# Altium integrated library Library.IntLib: 629 symbols (part 20 of 21)
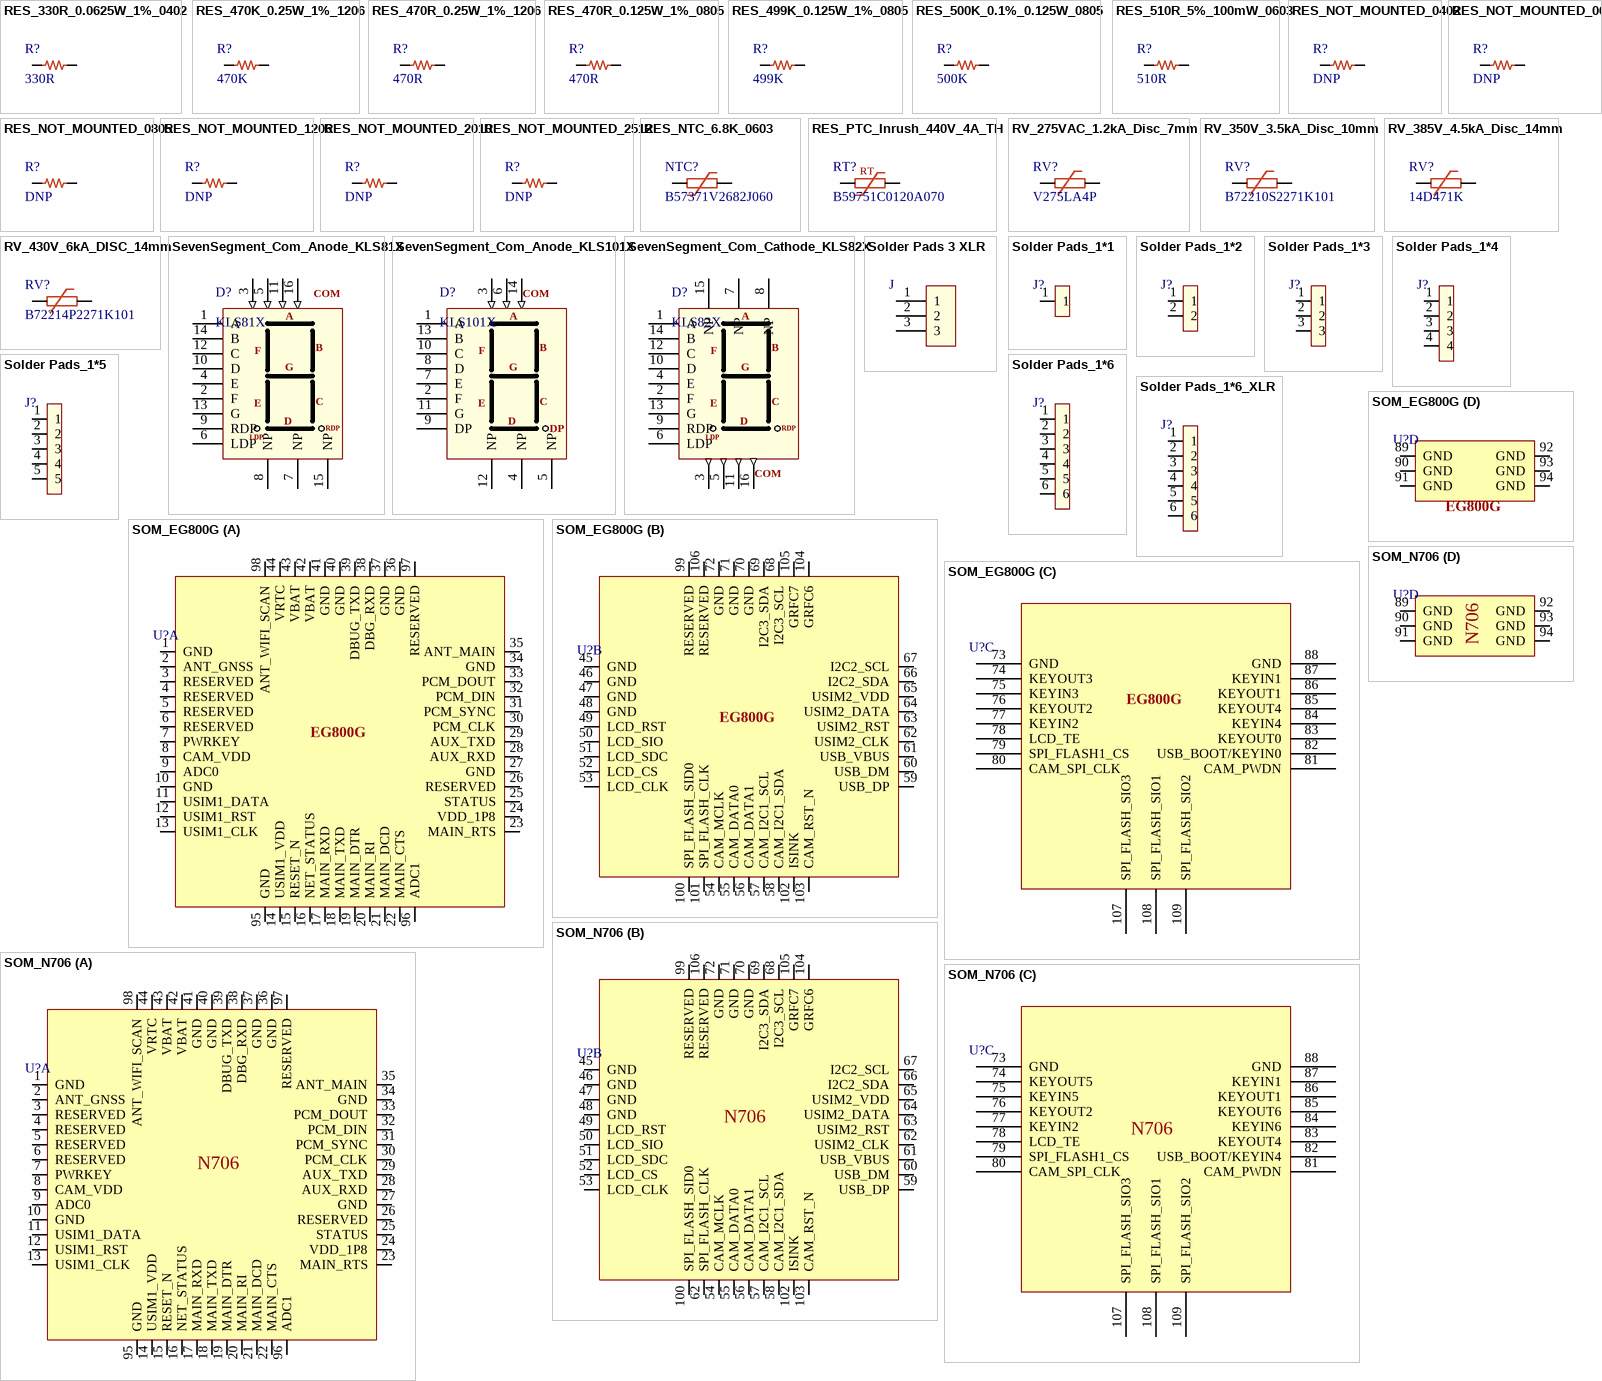
[diagram p37: symbols RES_330R_0.0625W_1%_0402 to SOM_N706]

## RES_470R_0.125W_1%_0805
designator R?, comment 470R
Fixed Resistor, Metal Glaze/thick Film, 0.125W, 470ohm, 150V, 1% +/-Tol, 100ppm/Cel, Surface Mount, 0805; Manufacturer: Yageo; Manufacturer Part Number: RC0805FR-07470RL; Additional Feature: LASER TRIMMABLE; Power: 125mW; Rated Temperature: 70°C; Temperature Coefficient (ppm/Cel): 100; Package Height: 0.5mm; Package Length: 2mm; Package Width: 1.25mm; Supplier: Farnell; Supplier Part Number: 9237445; RoHS: Yes; Category: Chip SMD Resistors; Stock: 108732; Pricing: 10=0.0137, 100=0.0102, 500=0.0089, 1000=0.0076, 2500=0.0074 (EUR); Mounting Technology: Surface Mount; Pins: 2; Package Shape: Rectangular; Case/Package: 0805; Terminal Finish: Nickel; Min Operating Temperature: -55°C; Max Operating Temperature: 155°C; Tolerance: 1%; Termination: Wraparound; JESD-609 Code: e3; Resistor Type: FIXED RESISTOR; Construction: Chip; Packaging: Tape and Reel; Value: 470R; Technology: METAL GLAZE/THICK FILM; Working Voltage: 150V; Reach SVHC Compliant: Yes; RoHS Compliant: Yes; ComponentLink1URL: https://datasheet.ciiva.com:443/pdfs/VipMasterIC/IC/YAGO/YAGO-S-A0008145938/YAGO-S-A0008145938-1.pdf?src-supplier=IHS+Markit; ComponentLink1Description: https://datasheet.ciiva.com:443/pdfs/VipMasterIC/IC/YAGO/YAGO-S-A0008145938/YAGO-S-A0008145938-1.pdf?src-supplier=IHS+Markit; ComponentLink2URL: https://datasheet.ciiva.com/2457/pyu-r-int-thick-7-2457057.pdf?src-supplier=Digikey; ComponentLink2Description: https://datasheet.ciiva.com/2457/pyu-r-int-thick-7-2457057.pdf?src-supplier=Digikey; ComponentLink3URL: https://datasheet.ciiva.com/2457/pyu-r-int-thick-7-2457058.pdf?src-supplier=Digikey; ComponentLink3Description: https://datasheet.ciiva.com/2457/pyu-r-int-thick-7-2457058.pdf?src-supplier=Digikey; ComponentLink4URL: https://datasheet.ciiva.com/2457/pyu-r-int-thick-7-2457056.pdf?src-supplier=Digikey; ComponentLink4Description: https://datasheet.ciiva.com/2457/pyu-r-int-thick-7-2457056.pdf?src-supplier=Digikey; ComponentLink5URL: https://datasheet.ciiva.com/7941/444164-7941797.pdf?src-supplier=Element14; ComponentLink5Description: https://datasheet.ciiva.com/7941/444164-7941797.pdf?src-supplier=Element14; ComponentLink6URL: https://datasheet.ciiva.com/46447/444164-46447580.pdf?src-supplier=Element14; ComponentLink6Description: https://datasheet.ciiva.com/46447/444164-46447580.pdf?src-supplier=Element14; ComponentLink7URL: https://datasheet.ciiva.com/7941/444164-7941798.pdf?src-supplier=Element14; ComponentLink7Description: https://datasheet.ciiva.com/7941/444164-7941798.pdf?src-supplier=Element14; ComponentLink8URL: https://datasheet.ciiva.com/16745/rc0805-16745229.pdf?src-supplier=Future+Electronics; ComponentLink8Description: https://datasheet.ciiva.com/16745/rc0805-16745229.pdf?src-supplier=Future+Electronics
footprint RES_0805
pins: 1, 2

## RES_499K_0.125W_1%_0805
designator R?, comment 499K
Fixed Resistor, Metal Glaze/thick Film, 0.125W, 499000ohm, 150V, 1% +/-Tol, 100ppm/Cel, Surface Mount, 0805; Manufacturer: Yageo; Manufacturer Part Number: RC0805FR-07499KL; Additional Feature: LASER TRIMMABLE; Power: 125mW; Rated Temperature: 70°C; Value: 499kR; Temperature Coefficient (ppm/Cel): 100; Package Height: 0.5mm; Package Length: 2mm; Package Width: 1.25mm; Supplier: Future Electronics; Supplier Part Number: 3257920; RoHS: Yes; Category: Chip SMD Resistors; Stock: 9885000; Pricing: 5000=0.0021, 20000=0.002, 100000=0.0019, 200000=0.0018, 625000=0.0017 (USD); Mounting Technology: Surface Mount; Pins: 2; Package Shape: Rectangular; Case/Package: 0805; Terminal Finish: Nickel; Min Operating Temperature: -55°C; Max Operating Temperature: 155°C; Tolerance: 1%; JESD-609 Code: e3; Resistor Type: FIXED RESISTOR; Construction: Chip; Packaging: Tape and Reel; Technology: METAL GLAZE/THICK FILM; Termination: Wraparound; Working Voltage: 150V; Reach SVHC Compliant: Yes; RoHS Compliant: Yes; ComponentLink1URL: https://datasheet.ciiva.com:443/pdfs/VipMasterIC/IC/YAGO/YAGO-S-A0008145938/YAGO-S-A0008145938-1.pdf?src-supplier=IHS+Markit; ComponentLink1Description: https://datasheet.ciiva.com:443/pdfs/VipMasterIC/IC/YAGO/YAGO-S-A0008145938/YAGO-S-A0008145938-1.pdf?src-supplier=IHS+Markit; ComponentLink2URL: https://datasheet.ciiva.com/15189/getdatasheetpartid-326570-15189975.pdf?src-supplier=Verical; ComponentLink2Description: https://datasheet.ciiva.com/15189/getdatasheetpartid-326570-15189975.pdf?src-supplier=Verical
footprint RES_0805
pins: 1, 2

## RES_500K_0.1%_0.125W_0805
designator R?, comment 500K
500 kOhms ±0.1% 0.125W, 1/8W Chip Resistor 0805 (2012 Metric) Automotive AEC-Q200 Thin Film; Manufacturer: Stackpole Electronics; Manufacturer Part Number: RNCF0805BTE500K; Manufacturer Series: RNCF; Supplier: Digikey; Supplier Part Number: 738-RNCF0805BTE500KCT-ND; RoHS: Yes; Category: Chip SMD Resistors; Stock: 6410; Pricing: 1=0.12, 10=0.1, 50=0.0878, 100=0.083, 500=0.07292, 1000=0.06917 (USD); Pins: 2; Terminal Finish: Nickel; JESD-609 Code: e3; Resistor Type: FIXED RESISTOR; Reach SVHC Compliant: Yes; RoHS Compliant: Yes; ComponentLink1URL: https://datasheet.ciiva.com:443/pdfs/VipMasterIC/IC/SEIE/SEIE-S-A0002253116/SEIE-S-A0002253116-1.pdf?src-supplier=IHS+Markit; ComponentLink1Description: https://datasheet.ciiva.com:443/pdfs/VipMasterIC/IC/SEIE/SEIE-S-A0002253116/SEIE-S-A0002253116-1.pdf?src-supplier=IHS+Markit; ComponentLink2URL: https://www.seielect.com/catalog/sei-rncf.pdf?src-supplier=Digikey; ComponentLink2Description: https://www.seielect.com/catalog/sei-rncf.pdf?src-supplier=Digikey
footprint RES_0805
pins: 1, 2

## RES_510R_5%_100mW_0603
designator R?, comment 510R
SMD Chip Resistor, 510 Ohm, ± 5%, 100 mW, 0603 [1608 Metric], Thick Film, General Purpose; Manufacturer: Yageo; Manufacturer Part Number: RC0603JR-07510RL; Supplier 1: Digi-Key; RoHS: Yes; Category: Chip SMD Resistors; Stock 1: 742705; Pricing 1: 1=0.1, 10=0.015, 50=0.0092, 100=0.0075, 500=0.00504, 1000=0.00431 (USD); ComponentLink1URL: https://datasheet.ciiva.com/46395/443971-46395083.pdf?src-supplier=Element14; ComponentLink1Description: https://datasheet.ciiva.com/46395/443971-46395083.pdf?src-supplier=Element14; Supplier Part Number 1: 311-510GRCT-ND
footprint RES_0603
pins: 1, 2

## RES_NOT_MOUNTED_0402
designator R?, comment DNP
Resistor Do not place 0402
footprint RES_0402
pins: 1, 2

## RES_NOT_MOUNTED_0603
designator R?, comment DNP
Resistor Do not place 0603
footprint RES_0603
pins: 1, 2

## RES_NOT_MOUNTED_0805
designator R?, comment DNP
Resistor Do not place 0805
footprint RES_0805
pins: 1, 2

## RES_NOT_MOUNTED_1206
designator R?, comment DNP
Resistor Do not place 1206
footprint RES_1206
pins: 1, 2

## RES_NOT_MOUNTED_2010
designator R?, comment DNP
Resistor Do not place 2010
footprint RES_2010
pins: 1, 2

## RES_NOT_MOUNTED_2512
designator R?, comment DNP
Resistor Do not place 2512
footprint RES_2512
pins: 1, 2

## RES_NTC_6.8K_0603
designator NTC?, comment B57371V2682J060
NTC Thermistor, 6800ohm, Surface Mount; Manufacturer: TDK EPCOS; Tolerance: 5%; Power: 180mW; Rated Temperature: 25°C; Value: 6.8kR; Thermistor Application: TEMPERATURE COMPENSATION; Supplier: Farnell; Supplier Part Number: 2432567; Manufacturer Part Number: B57371V2682J060; RoHS: Yes; Category: Thermistors; Pricing: 10=0.206, 100=0.107, 500=0.105, 1000=0.102, 2000=0.0997, 4000=0.0973, 20000=0.0948 (GBP); Mounting Technology: Surface Mount; Pins: 2; Package Shape: Rectangular; Terminal Finish: Tin; Min Operating Temperature: -55°C; Max Operating Temperature: 125°C; JESD-609 Code: e3; Resistor Type: NTC THERMISTOR; Packaging: Tape and Reel; Terminal Placement: Dual Ended; Termination: Wraparound; Reach SVHC Compliant: Yes; RoHS Compliant: Yes; ComponentLink1URL: https://datasheet.ciiva.com:443/pdfs/VipMasterIC/IC/TDKC/TDKC-S-A0005243164/TDKC-S-A0005243164-1.pdf?src-supplier=IHS+Markit; ComponentLink1Description: https://datasheet.ciiva.com:443/pdfs/VipMasterIC/IC/TDKC/TDKC-S-A0005243164/TDKC-S-A0005243164-1.pdf?src-supplier=IHS+Markit; ComponentLink2URL: https://datasheet.ciiva.com/46435/1784391-46435740.pdf?src-supplier=Element14; ComponentLink2Description: https://datasheet.ciiva.com/46435/1784391-46435740.pdf?src-supplier=Element14
footprint RES_0603
pins: 1, 2

## RES_PTC_Inrush_440V_4A_TH
designator RT?, comment B59751C0120A070
Ceramic PTC Resettable Fuse 440V 87 mA Ih Through Hole Radial, Disc; Manufacturer: TDK EPCOS; Supplier: Digikey; Supplier Part Number: 495-7219-ND; Manufacturer Part Number: B59751C0120A070; RoHS: Yes; Category: PTC Resettable Fuses; Stock: 19089; Pricing: 1=2.92, 5=2.464, 10=2.289, 25=2.0776, 50=1.9306, 100=1.794, 500=1.51334, 1000=1.40652, 5000=1.3145 (USD); Resistor Type: PTC THERMISTOR; Reach SVHC Compliant: Yes; RoHS Compliant: Yes; ComponentLink1URL: https://datasheet.ciiva.com:443/pdfs/VipMasterIC/IC/EPCO/EPCOS23124/EPCOS23124-1.pdf?src-supplier=IHS+Markit; ComponentLink1Description: https://datasheet.ciiva.com:443/pdfs/VipMasterIC/IC/EPCO/EPCOS23124/EPCOS23124-1.pdf?src-supplier=IHS+Markit; ComponentLink2URL: http://www.farnell.com/datasheets/2737028.pdf?src-supplier=Farnell; ComponentLink2Description: http://www.farnell.com/datasheets/2737028.pdf?src-supplier=Farnell; ComponentLink3URL: https://en.tdk.eu/inf/55/db/PTC/PTC_ICL_OC_Leaded_260V_1000V.pdf?src-supplier=Digikey; ComponentLink3Description: https://en.tdk.eu/inf/55/db/PTC/PTC_ICL_OC_Leaded_260V_1000V.pdf?src-supplier=Digikey; ComponentLink4URL: http://www.farnell.com/datasheets/2737028.pdf?src-supplier=Newark; ComponentLink4Description: http://www.farnell.com/datasheets/2737028.pdf?src-supplier=Newark
footprint PTC_13mm*7.5mm
pins: 1, 2
text: RT

## RV_275VAC_1.2kA_Disc_7mm
designator RV?, comment V275LA4P
Varistor, 369V, 23J, Through Hole Mount; Manufacturer: Littelfuse; Circuit RMS Voltage-Max: 275V; Power: 250mW; Rated Temperature: 85°C; Reference Standard: CECC42201-006; Supplier: Farnell; Supplier Part Number: 1057199; Manufacturer Part Number: V275LA4P; RoHS: Yes; Category: Varistors; Stock: 2609; Pricing: 1=0.289, 50=0.254, 100=0.219, 250=0.186, 500=0.164, 1500=0.138 (EUR); Mounting Technology: Through Hole; Pins: 2; Package Shape: Disk; Terminal Finish: Tin; Min Operating Temperature: -55°C; Max Operating Temperature: 85°C; JESD-609 Code: e3; Resistor Type: VARISTOR; Circuit DC Voltage-Max: 369V; Energy Absorbing Capacity-Max: 23J; Package Style: RadialMeter; Packaging: Bulk; Technology: METAL OXIDE FILM; Terminal Placement: Radial; Termination: Wire; RoHS Compliant: Yes; Reach SVHC Compliant: Yes; ComponentLink1URL: https://datasheet.ciiva.com:443/pdfs/VipMasterIC/IC/LFSI/LFSI-S-A0009495583/LFSI-S-A0009495583-1.pdf?src-supplier=IHS+Markit; ComponentLink1Description: https://datasheet.ciiva.com:443/pdfs/VipMasterIC/IC/LFSI/LFSI-S-A0009495583/LFSI-S-A0009495583-1.pdf?src-supplier=IHS+Markit; ComponentLink2URL: https://datasheet.ciiva.com/4539/littelfuse-mov-la-34212-4539888.pdf?src-supplier=Mouser; ComponentLink2Description: https://datasheet.ciiva.com/4539/littelfuse-mov-la-34212-4539888.pdf?src-supplier=Mouser; ComponentLink3URL: https://datasheet.ciiva.com/11834/0900766b80785545-11834260.pdf?src-supplier=Rs; ComponentLink3Description: https://datasheet.ciiva.com/11834/0900766b80785545-11834260.pdf?src-supplier=Rs; ComponentLink4URL: https://datasheet.ciiva.com/8070/482376-8070778.pdf?src-supplier=Element14; ComponentLink4Description: https://datasheet.ciiva.com/8070/482376-8070778.pdf?src-supplier=Element14; ComponentLink5URL: https://datasheet.ciiva.com/18419/70184275-18419327.pdf?src-supplier=Allied+Electronics; ComponentLink5Description: https://datasheet.ciiva.com/18419/70184275-18419327.pdf?src-supplier=Allied+Electronics; ComponentLink6URL: https://datasheet.ciiva.com/16449/la-16449301.pdf?src-supplier=Future+Electronics; ComponentLink6Description: https://datasheet.ciiva.com/16449/la-16449301.pdf?src-supplier=Future+Electronics; ComponentLink7URL: https://datasheet.ciiva.com/365/littelfuse-mov-la-365346.pdf?src-supplier=Digikey; ComponentLink7Description: https://datasheet.ciiva.com/365/littelfuse-mov-la-365346.pdf?src-supplier=Digikey
pins: 1, 2

## RV_350V_3.5kA_Disc_10mm
designator RV?, comment B72210S2271K101
Varistor, 350V, 55J, Through Hole Mount; Manufacturer: TDK EPCOS; Circuit RMS Voltage-Max: 275V; Power: 400mW; Supplier: Rs; Supplier Part Number: 2416752; Manufacturer Part Number: B72210S2271K101; RoHS: Yes; Category: Varistors; Stock: 2400; Pricing: 5=0.422, 50=0.372, 100=0.332, 250=0.26 (EUR); Mounting Technology: Through Hole; Pins: 2; Package Shape: Disk; Terminal Finish: Tin; Min Operating Temperature: -40°C; Max Operating Temperature: 85°C; JESD-609 Code: e3; Resistor Type: VARISTOR; Circuit DC Voltage-Max: 350V; Energy Absorbing Capacity-Max: 55J; Manufacturer Series: B72210S2271K101; Package Style: RadialMeter; Packaging: Bulk; Technology: METAL OXIDE FILM; Terminal Placement: Radial; Termination: Wire; Reach SVHC Compliant: Yes; RoHS Compliant: Yes; ComponentLink1URL: https://datasheet.ciiva.com:443/pdfs/VipMasterIC/IC/EPCO/EPCOS18149/EPCOS18149-1.pdf?src-supplier=IHS+Markit; ComponentLink1Description: https://datasheet.ciiva.com:443/pdfs/VipMasterIC/IC/EPCO/EPCOS18149/EPCOS18149-1.pdf?src-supplier=IHS+Markit; ComponentLink2URL: http://www.farnell.com/datasheets/1680955.pdf?src-supplier=Farnell; ComponentLink2Description: http://www.farnell.com/datasheets/1680955.pdf?src-supplier=Farnell; ComponentLink3URL: http://www.farnell.com/datasheets/2311597.pdf?src-supplier=Farnell; ComponentLink3Description: http://www.farnell.com/datasheets/2311597.pdf?src-supplier=Farnell; ComponentLink4URL: http://components.arrow.com/part/dataview/30869957S9461734N9769?src-supplier=Arrow+Electronics; ComponentLink4Description: http://components.arrow.com/part/dataview/30869957S9461734N9769?src-supplier=Arrow+Electronics; ComponentLink5URL: http://www.farnell.com/datasheets/1680955.pdf?src-supplier=Element14; ComponentLink5Description: http://www.farnell.com/datasheets/1680955.pdf?src-supplier=Element14; ComponentLink6URL: http://www.farnell.com/datasheets/2311597.pdf?src-supplier=Newark; ComponentLink6Description: http://www.farnell.com/datasheets/2311597.pdf?src-supplier=Newark; ComponentLink7URL: http://datasheet.octopart.com/B72210S2271K101-EPCOS-datasheet-11546246.pdf?src-supplier=Distrelec; ComponentLink7Description: http://datasheet.octopart.com/B72210S2271K101-EPCOS-datasheet-11546246.pdf?src-supplier=Distrelec; ComponentLink8URL: https://en.tdk.eu/inf/70/db/var/SIOV_Leaded_AdvanceD.pdf?src-supplier=Digikey; ComponentLink8Description: https://en.tdk.eu/inf/70/db/var/SIOV_Leaded_AdvanceD.pdf?src-supplier=Digikey; ComponentLink9URL: https://datasheet.octopart.com/S10K275E2-EPCOS-datasheet-5104.pdf?src-supplier=Future+Electronics; ComponentLink9Description: https://datasheet.octopart.com/S10K275E2-EPCOS-datasheet-5104.pdf?src-supplier=Future+Electronics; ComponentLink10URL: http://datasheet.octopart.com/B72210S2271K101-EPCOS-datasheet-11546246.pdf?src-supplier=Mouser; ComponentLink10Description: http://datasheet.octopart.com/B72210S2271K101-EPCOS-datasheet-11546246.pdf?src-supplier=Mouser; ComponentLink11URL: https://datasheet.octopart.com/B72210S2271K101-EPCOS-datasheet-11546246.pdf?src-supplier=Newark; ComponentLink11Description: https://datasheet.octopart.com/B72210S2271K101-EPCOS-datasheet-11546246.pdf?src-supplier=Newark; ComponentLink12URL: http://datasheet.octopart.com/B72210S2271K101-EPCOS-datasheet-11546246.pdf?src-supplier=Avnet; ComponentLink12Description: http://datasheet.octopart.com/B72210S2271K101-EPCOS-datasheet-11546246.pdf?src-supplier=Avnet; ComponentLink13URL: http://www.epcos.com/inf/70/db/var_08/SIOV_Leaded_StandarD.pdf?src-supplier=Future+Electronics; ComponentLink13Description: http://www.epcos.com/inf/70/db/var_08/SIOV_Leaded_StandarD.pdf?src-supplier=Future+Electronics; ComponentLink14URL: http://datasheet.octopart.com/B72210S2271K101-EPCOS-datasheet-11546246.pdf?src-supplier=Verical; ComponentLink14Description: http://datasheet.octopart.com/B72210S2271K101-EPCOS-datasheet-11546246.pdf?src-supplier=Verical; ComponentLink15URL: http://datasheet.octopart.com/B72210S2271K101-EPCOS-datasheet-11546246.pdf?src-supplier=TME; ComponentLink15Description: http://datasheet.octopart.com/B72210S2271K101-EPCOS-datasheet-11546246.pdf?src-supplier=TME; ComponentLink16URL: http://datasheet.octopart.com/B72210S2271K101-EPCOS-datasheet-11546246.pdf?src-supplier=TTI; ComponentLink16Description: http://datasheet.octopart.com/B72210S2271K101-EPCOS-datasheet-11546246.pdf?src-supplier=TTI; ComponentLink17URL: http://datasheet.octopart.com/B72210S2271K101-EPCOS-datasheet-11546246.pdf?src-supplier=Rutronik; ComponentLink17Description: http://datasheet.octopart.com/B72210S2271K101-EPCOS-datasheet-11546246.pdf?src-supplier=Rutronik
footprint Varistor 7.5mm 1.8mm
pins: 1, 2

## RV_385V_4.5kA_Disc_14mm
designator RV?, comment 14D471K
Varistor, 385V, 125J, Through Hole Mount; Manufacturer: Bourns; Manufacturer Part Number: MOV-14D471K; Circuit RMS Voltage-Max: 300V; Power: 600mW; Supplier: Farnell; Supplier Part Number: 3373349; RoHS: Yes; Category: Varistors; Stock: 1268; Pricing: 1=0.824, 10=0.486, 50=0.379, 100=0.272, 200=0.233, 600=0.204 (EUR); Mounting Technology: Through Hole; Pins: 2; Package Shape: Disk; Terminal Finish: Tin; Min Operating Temperature: -40°C; Max Operating Temperature: 85°C; JESD-609 Code: e3; Resistor Type: VARISTOR; Circuit DC Voltage-Max: 385V; Energy Absorbing Capacity-Max: 125J; Packaging: Bulk; Terminal Placement: Radial; Termination: Wire; Reach SVHC Compliant: Yes; RoHS Compliant: Yes; ComponentLink1URL: https://datasheet.ciiva.com:443/pdfs/VipMasterIC/IC/BOUR/BOUR-S-A0006604788/BOUR-S-A0006604788-1.pdf?src-supplier=IHS+Markit; ComponentLink1Description: https://datasheet.ciiva.com:443/pdfs/VipMasterIC/IC/BOUR/BOUR-S-A0006604788/BOUR-S-A0006604788-1.pdf?src-supplier=IHS+Markit; ComponentLink2URL: https://datasheet.ciiva.com/7971/1730506-7971449.pdf?src-supplier=Element14; ComponentLink2Description: https://datasheet.ciiva.com/7971/1730506-7971449.pdf?src-supplier=Element14; ComponentLink3URL: https://datasheet.ciiva.com/18419/70231685-18419160.pdf?src-supplier=Allied+Electronics; ComponentLink3Description: https://datasheet.ciiva.com/18419/70231685-18419160.pdf?src-supplier=Allied+Electronics; ComponentLink4URL: https://datasheet.ciiva.com/3024/mov14d-3024115.pdf?src-supplier=Avnet; ComponentLink4Description: https://datasheet.ciiva.com/3024/mov14d-3024115.pdf?src-supplier=Avnet; ComponentLink5URL: https://datasheet.ciiva.com/369/mov14d-369506.pdf?src-supplier=Digikey; ComponentLink5Description: https://datasheet.ciiva.com/369/mov14d-369506.pdf?src-supplier=Digikey
footprint Varistor 7.5mm 3.2mm
pins: 1, 2

## RV_430V_6kA_DISC_14mm
designator RV?, comment B72214P2271K101
Varistor, 350V, 130J, Through Hole Mount; Manufacturer: TDK EPCOS; Circuit RMS Voltage-Max: 275V; Power: 600mW; Supplier: Rs; Supplier Part Number: 7118158P; Manufacturer Part Number: B72214P2271K101; RoHS: Yes; Category: Varistors; Stock: 1006; Pricing: 50=0.44, 100=0.39, 250=0.338, 1000=0.31 (EUR); Mounting Technology: Through Hole; Pins: 2; Package Shape: Disk; Terminal Finish: Tin; Min Operating Temperature: -40°C; Max Operating Temperature: 85°C; JESD-609 Code: e3; Resistor Type: VARISTOR; Circuit DC Voltage-Max: 350V; Energy Absorbing Capacity-Max: 130J; Package Style: RadialMeter; Packaging: Bulk; Technology: METAL OXIDE FILM; Terminal Placement: Radial; Termination: Wire; Reach SVHC Compliant: Yes; RoHS Compliant: Yes; ComponentLink1URL: https://datasheet.ciiva.com:443/pdfs/VipMasterIC/IC/TDKC/TDKC-S-A0003374488/TDKC-S-A0003374488-1.pdf?src-supplier=IHS+Markit; ComponentLink1Description: https://datasheet.ciiva.com:443/pdfs/VipMasterIC/IC/TDKC/TDKC-S-A0003374488/TDKC-S-A0003374488-1.pdf?src-supplier=IHS+Markit; ComponentLink2URL: https://datasheet.ciiva.com/11834/0900766b80e80b65-11834702.pdf?src-supplier=Rs; ComponentLink2Description: https://datasheet.ciiva.com/11834/0900766b80e80b65-11834702.pdf?src-supplier=Rs; ComponentLink3URL: https://datasheet.ciiva.com/26334/531457-da-01-en-varistor-s14k275e2k1-26334997.pdf?src-supplier=Conrad; ComponentLink3Description: https://datasheet.ciiva.com/26334/531457-da-01-en-varistor-s14k275e2k1-26334997.pdf?src-supplier=Conrad; ComponentLink4URL: https://datasheet.ciiva.com/365/siov-s14ke2k1-advanced-mp-365880.pdf?src-supplier=Digikey; ComponentLink4Description: https://datasheet.ciiva.com/365/siov-s14ke2k1-advanced-mp-365880.pdf?src-supplier=Digikey
footprint Varistor 7.5mm 3.2mm 16mm
pins: 1, 2

## SevenSegment_Com_Anode_KLS81X
designator D?, comment KLS81X
0.8" 14PIN Seven Segment 14DIP
footprint SevenSegment_0.8
pins: 1 A, 2 F, 3 COM (in), 4 E, 5 COM (in), 6 LDP, 7 NP, 8 NP, 9 RDP, 10 D, 11 COM (in), 12 C, 13 G, 14 B, 15 NP, 16 COM (in)

## SevenSegment_Com_Anode_KLS101X
designator D?, comment KLS101X
1.0" 14PIN Seven Segment 14DIP
pins: 1 A, 2 F, 3 COM (in), 4 NP, 5 NP, 6 COM (in), 7 E, 8 D, 9 DP, 10 C, 11 G, 12 NP, 13 B, 14 COM (in)

## SevenSegment_Com_Cathode_KLS82X
designator D?, comment KLS82X
0.8" 14PIN Seven Segment 14DIP Common Cathode
footprint SevenSegment_0.8
pins: 1 A, 2 F, 3 COM (out), 4 E, 5 COM (out), 6 LDP, 7 NP, 8 NP, 9 RDP, 10 D, 11 COM (out), 12 C, 13 G, 14 B, 15 NP, 16 COM (out)

## Solder Pads 3 XLR
designator J
footprint SOLDERPADS 3 XLR Sensor
pins: 1, 2, 3

## Solder Pads_1*1
designator J?  (net tie, no BOM)
Solder Pads Pos 1
footprint Solder Pads 1*1
pins: 1

## Solder Pads_1*2
designator J?  (net tie, no BOM)
Solder Pads Pos 2
footprint Solder Pads 2*1
pins: 1, 2

## Solder Pads_1*3
designator J?  (net tie, no BOM)
Solder Pads Pos 3
footprint Solder Pads 3*1
pins: 1, 2, 3

## Solder Pads_1*4
designator J?  (net tie, no BOM)
Solder Pads Pos 4
footprint Solder Pads 4*1
pins: 1, 2, 3, 4

## Solder Pads_1*5
designator J?  (net tie, no BOM)
Solder Pads Pos 5
footprint Solder Pads 5*1
pins: 1, 2, 3, 4, 5

## Solder Pads_1*6
designator J?  (net tie, no BOM)
Solder Pads Pos 6
footprint Solder Pads 6*1
pins: 1, 2, 3, 4, 5, 6

## Solder Pads_1*6_XLR
designator J?  (net tie, no BOM)
Solder Pads Pos 6
footprint Solder Pads 6*1 XLR
pins: 1, 2, 3, 4, 5, 6

## SOM_EG800G
designator U?, comment N706  (value not drawn)
footprint EG800G
part A pins: 1 GND, 2 ANT_GNSS, 3 RESERVED, 4 RESERVED, 5 RESERVED, 6 RESERVED, 7 PWRKEY, 8 CAM_VDD, 9 ADC0, 10 GND, 11 USIM1_DATA, 12 USIM1_RST, 13 USIM1_CLK, 14 USIM1_VDD, 15 RESET_N, 16 NET_STATUS, 17 MAIN_RXD, 18 MAIN_TXD, 19 MAIN_DTR, 20 MAIN_RI, 21 MAIN_DCD, 22 MAIN_CTS, 23 MAIN_RTS, 24 VDD_1P8, 25 STATUS, 26 RESERVED, 27 GND, 28 AUX_RXD, 29 AUX_TXD, 30 PCM_CLK, 31 PCM_SYNC, 32 PCM_DIN, 33 PCM_DOUT, 34 GND, 35 ANT_MAIN, 36 GND, 37 GND, 38 DBG_RXD, 39 DBUG_TXD, 40 GND, 41 GND, 42 VBAT, 43 VBAT, 44 VRTC, 95 GND, 96 ADC1, 97 RESERVED, 98 ANT_WIFI_SCAN
part B pins: 45 GND, 46 GND, 47 GND, 48 GND, 49 LCD_RST, 50 LCD_SIO, 51 LCD_SDC, 52 LCD_CS, 53 LCD_CLK, 54 CAM_MCLK, 55 CAM_DATA0, 56 CAM_DATA1, 57 CAM_I2C1_SCL, 58 CAM_I2C1_SDA, 59 USB_DP, 60 USB_DM, 61 USB_VBUS, 62 USIM2_CLK, 63 USIM2_RST, 64 USIM2_DATA, 65 USIM2_VDD, 66 I2C2_SDA, 67 I2C2_SCL, 68 I2C3_SCL, 69 I2C3_SDA, 70 GND, 71 GND, 72 GND, 99 RESERVED, 100 SPI_FLASH_SID0, 101 SPI_FLASH_CLK, 102 ISINK, 103 CAM_RST_N, 104 GRFC6, 105 GRFC7, 106 RESERVED
part C pins: 73 GND, 74 KEYOUT3, 75 KEYIN3, 76 KEYOUT2, 77 KEYIN2, 78 LCD_TE, 79 SPI_FLASH1_CS, 80 CAM_SPI_CLK, 81 CAM_PWDN, 82 USB_BOOT/KEYIN0, 83 KEYOUT0, 84 KEYIN4, 85 KEYOUT4, 86 KEYOUT1, 87 KEYIN1, 88 GND, 107 SPI_FLASH_SIO3, 108 SPI_FLASH_SIO1, 109 SPI_FLASH_SIO2
part D pins: 89 GND, 90 GND, 91 GND, 92 GND, 93 GND, 94 GND
part A text: EG800G
part B text: EG800G
part C text: EG800G
part D text: EG800G

## SOM_N706
designator U?, comment N706  (value not drawn)
footprint N706
part A pins: 1 GND, 2 ANT_GNSS, 3 RESERVED, 4 RESERVED, 5 RESERVED, 6 RESERVED, 7 PWRKEY, 8 CAM_VDD, 9 ADC0, 10 GND, 11 USIM1_DATA, 12 USIM1_RST, 13 USIM1_CLK, 14 USIM1_VDD, 15 RESET_N, 16 NET_STATUS, 17 MAIN_RXD, 18 MAIN_TXD, 19 MAIN_DTR, 20 MAIN_RI, 21 MAIN_DCD, 22 MAIN_CTS, 23 MAIN_RTS, 24 VDD_1P8, 25 STATUS, 26 RESERVED, 27 GND, 28 AUX_RXD, 29 AUX_TXD, 30 PCM_CLK, 31 PCM_SYNC, 32 PCM_DIN, 33 PCM_DOUT, 34 GND, 35 ANT_MAIN, 36 GND, 37 GND, 38 DBG_RXD, 39 DBUG_TXD, 40 GND, 41 GND, 42 VBAT, 43 VBAT, 44 VRTC, 95 GND, 96 ADC1, 97 RESERVED, 98 ANT_WIFI_SCAN
part B pins: 45 GND, 46 GND, 47 GND, 48 GND, 49 LCD_RST, 50 LCD_SIO, 51 LCD_SDC, 52 LCD_CS, 53 LCD_CLK, 54 CAM_MCLK, 55 CAM_DATA0, 56 CAM_DATA1, 57 CAM_I2C1_SCL, 58 CAM_I2C1_SDA, 59 USB_DP, 60 USB_DM, 61 USB_VBUS, 62 SPI_FLASH_CLK, 62 USIM2_CLK, 63 USIM2_RST, 64 USIM2_DATA, 65 USIM2_VDD, 66 I2C2_SDA, 67 I2C2_SCL, 68 I2C3_SCL, 69 I2C3_SDA, 70 GND, 71 GND, 72 GND, 99 RESERVED, 100 SPI_FLASH_SID0, 102 ISINK, 103 CAM_RST_N, 104 GRFC6, 105 GRFC7, 106 RESERVED
part C pins: 73 GND, 74 KEYOUT5, 75 KEYIN5, 76 KEYOUT2, 77 KEYIN2, 78 LCD_TE, 79 SPI_FLASH1_CS, 80 CAM_SPI_CLK, 81 CAM_PWDN, 82 USB_BOOT/KEYIN4, 83 KEYOUT4, 84 KEYIN6, 85 KEYOUT6, 86 KEYOUT1, 87 KEYIN1, 88 GND, 107 SPI_FLASH_SIO3, 108 SPI_FLASH_SIO1, 109 SPI_FLASH_SIO2
part D pins: 89 GND, 90 GND, 91 GND, 92 GND, 93 GND, 94 GND

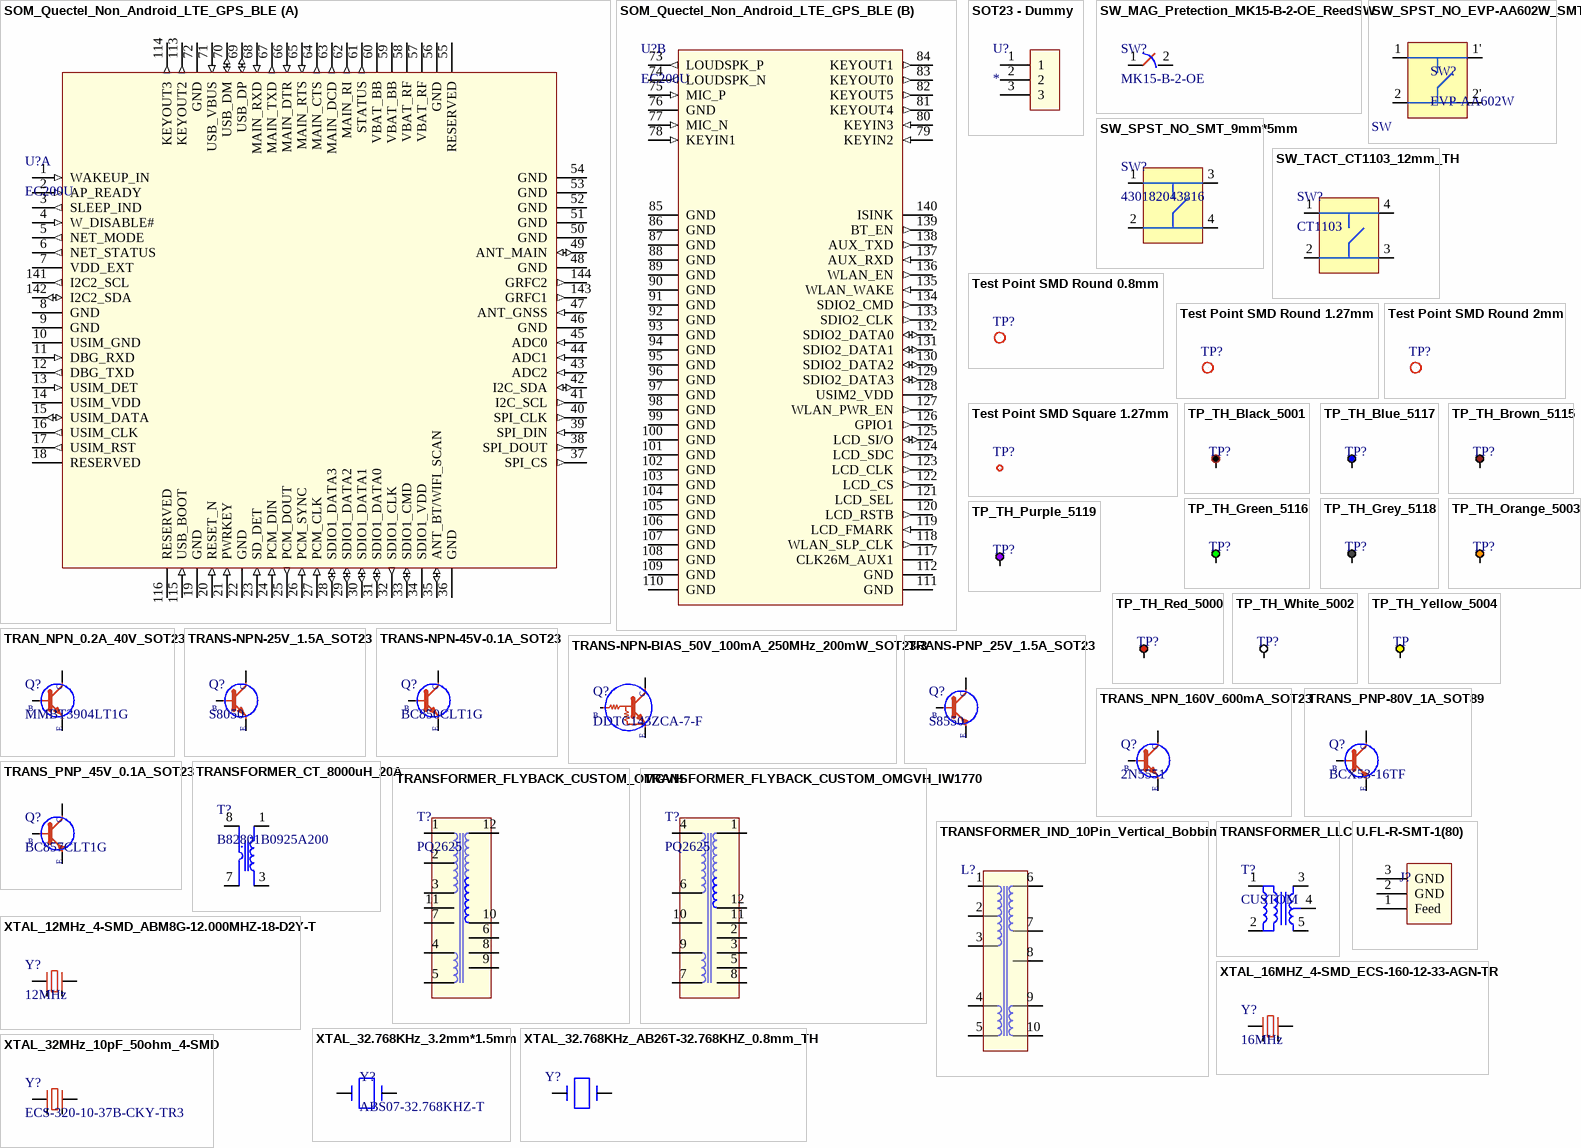
[diagram p17: symbols SOM_Quectel_Non_Android_LTE_GPS_BLE to XTAL_32MHz_10pF_50ohm_4-SMD]

## SOM_Quectel_Non_Android_LTE_GPS_BLE
designator U?, comment EC200U
footprint EC200U-144_PINS
part A pins: 1 WAKEUP_IN (in), 2 AP_READY (in), 3 SLEEP_IND (out), 4 W_DISABLE# (in), 5 NET_MODE (out), 6 NET_STATUS (out), 7 VDD_EXT (power), 8 GND (power), 9 GND (power), 10 USIM_GND (power), 11 DBG_RXD (in), 12 DBG_TXD (out), 13 USIM_DET (in), 14 USIM_VDD (power), 15 USIM_DATA (io), 16 USIM_CLK (out), 17 USIM_RST (out), 18 RESERVED, 19 GND (power), 20 RESET_N (in), 21 PWRKEY (in), 22 GND (power), 23 SD_DET (in), 24 PCM_DIN (in), 25 PCM_DOUT (out), 26 PCM_SYNC (in), 27 PCM_CLK (in), 28 SDIO1_DATA3 (io), 29 SDIO1_DATA2 (io), 30 SDIO1_DATA1 (io), 31 SDIO1_DATA0 (io), 32 SDIO1_CLK (out), 33 SDIO1_CMD (io), 34 SDIO1_VDD (power), 35 ANT_BT/WIFI_SCAN (io), 36 GND (power), 37 SPI_CS (out), 38 SPI_DOUT (out), 39 SPI_DIN (in), 40 SPI_CLK (out), 41 I2C_SCL (out), 42 I2C_SDA (io), 43 ADC2 (in), 44 ADC1 (in), 45 ADC0 (in), 46 GND (power), 47 ANT_GNSS (in), 48 GND (power), 49 ANT_MAIN (io), 50 GND (power), 51 GND (power), 52 GND (power), 53 GND (power), 54 GND (power), 55 RESERVED, 56 GND (power), 57 VBAT_RF (power), 58 VBAT_RF (power), 59 VBAT_BB (power), 60 VBAT_BB (power), 61 STATUS (out), 62 MAIN_RI (out), 63 MAIN_DCD (out), 64 MAIN_CTS (out), 65 MAIN_RTS (in), 66 MAIN_DTR (in), 67 MAIN_TXD (out), 68 MAIN_RXD (in), 69 USB_DP (io), 70 USB_DM (io), 71 USB_VBUS (in), 72 GND (power), 113 KEYOUT2 (out), 114 KEYOUT3 (out), 115 USB_BOOT (in), 116 RESERVED, 141 I2C2_SCL (out), 142 I2C2_SDA (io), 143 GRFC1 (out), 144 GRFC2 (out)
part B pins: 73 LOUDSPK_P (out), 74 LOUDSPK_N (out), 75 MIC_P (in), 76 GND (power), 77 MIC_N (in), 78 KEYIN1 (in), 79 KEYIN2 (in), 80 KEYIN3 (in), 81 KEYOUT4 (out), 82 KEYOUT5 (out), 83 KEYOUT0 (out), 84 KEYOUT1 (out), 85 GND (power), 86 GND (power), 87 GND (power), 88 GND (power), 89 GND (power), 90 GND (power), 91 GND (power), 92 GND (power), 93 GND (power), 94 GND (power), 95 GND (power), 96 GND (power), 97 GND (power), 98 GND (power), 99 GND (power), 100 GND (power), 101 GND (power), 102 GND (power), 103 GND (power), 104 GND (power), 105 GND (power), 106 GND (oe), 107 GND (power), 108 GND (power), 109 GND (power), 110 GND (power), 111 GND (power), 112 GND (power), 117 CLK26M_AUX1, 118 WLAN_SLP_CLK (out), 119 LCD_FMARK (in), 120 LCD_RSTB (out), 121 LCD_SEL, 122 LCD_CS (out), 123 LCD_CLK (out), 124 LCD_SDC (out), 125 LCD_SI/O (io), 126 GPIO1 (out), 127 WLAN_PWR_EN (out), 128 USIM2_VDD (power), 129 SDIO2_DATA3 (io), 130 SDIO2_DATA2 (io), 131 SDIO2_DATA1 (io), 132 SDIO2_DATA0 (io), 133 SDIO2_CLK (out), 134 SDIO2_CMD (out), 135 WLAN_WAKE (in), 136 WLAN_EN (out), 137 AUX_RXD (in), 138 AUX_TXD (out), 139 BT_EN (out), 140 ISINK (power)

## SOT23 - Dummy
designator U?
footprint SOT23
pins: 1, 2, 3

## SW_MAG_Pretection_MK15-B-2-OE_ReedSW
designator SW?, comment MK15-B-2-OE
Die-cast Body Reed Switches SPST-NC 10~15AT Operating Range 10W 500mA (AC/DC) 180V Surface Mount; Manufacturer: Standex-Meder Electronics; Package Shape/Style: Rectangular; Sensor Type: PROXIMITY SENSOR,PHOTOELECTRIC; Body Breadth: 2.5mm; Body Height: 3.75mm; Body Length or Diameter: 16mm; Supplier: Digikey; Supplier Part Number: 374-1209-1-ND; Manufacturer Part Number: MK15-B-2-OE; RoHS: No; Stock: 5177; Pricing: 1=4.77, 10=4.158, 25=3.932, 100=3.6097, 250=3.40904, 500=3.26376 (USD); Mounting Technology: Surface Mount; Housing Material: Epoxy; Min Operating Temperature: -40°C; Max Operating Temperature: 130°C; Termination: Solder; ComponentLink1URL: https://datasheet.ciiva.com:443/pdfs/VipMasterIC/IC/MEDE/MEDES00692/MEDES00692-1.pdf?src-supplier=IHS+Markit; ComponentLink1Description: https://datasheet.ciiva.com:443/pdfs/VipMasterIC/IC/MEDE/MEDES00692/MEDES00692-1.pdf?src-supplier=IHS+Markit; ComponentLink2URL: https://datasheet.ciiva.com/2818/9150100022e-2818193.pdf?src-supplier=Digikey; ComponentLink2Description: https://datasheet.ciiva.com/2818/9150100022e-2818193.pdf?src-supplier=Digikey; ComponentLink3URL: https://datasheet.ciiva.com/4626/9150100022e-21654-4626594.pdf?src-supplier=Mouser; ComponentLink3Description: https://datasheet.ciiva.com/4626/9150100022e-21654-4626594.pdf?src-supplier=Mouser
footprint SW_Mag_reed
pins: 1, 2

## SW_SPST_NO_EVP-AA602W_SMT
designator SW?, comment EVP-AA602W
SWITCH TACTILE SPST-NO 0.02A 15V; Manufacturer: Panasonic; Supplier 1: Mouser; Manufacturer Part Number: EVP-AA602W; RoHS: Yes; Category: Tactile Switches; Stock 1: 3156; Pricing 1: 1=0.86, 10=0.818, 50=0.802, 100=0.682, 1000=0.498, 10000=0.461 (USD); ComponentLink1URL: https://datasheet.ciiva.com/30071/atk0000ce26-30071612.pdf?src-supplier=Onlinecomponents.com; ComponentLink1Description: https://datasheet.ciiva.com/30071/atk0000ce26-30071612.pdf?src-supplier=Onlinecomponents.com; ComponentLink2URL: https://datasheet.ciiva.com/16212/atk0000ce26-16212136.pdf?src-supplier=Future+Electronics; ComponentLink2Description: https://datasheet.ciiva.com/16212/atk0000ce26-16212136.pdf?src-supplier=Future+Electronics; ComponentLink3URL: https://datasheet.ciiva.com/2899/atk0000ce26-2899984.pdf?src-supplier=Digi-Key; ComponentLink3Description: https://datasheet.ciiva.com/2899/atk0000ce26-2899984.pdf?src-supplier=Digi-Key; ComponentLink4URL: https://datasheet.ciiva.com/2899/atk0000ce26-2899985.pdf?src-supplier=Digi-Key; ComponentLink4Description: https://datasheet.ciiva.com/2899/atk0000ce26-2899985.pdf?src-supplier=Digi-Key; ComponentLink5URL: https://datasheet.ciiva.com/2899/atk0000ce26-2899986.pdf?src-supplier=Digi-Key; ComponentLink5Description: https://datasheet.ciiva.com/2899/atk0000ce26-2899986.pdf?src-supplier=Digi-Key; Supplier 2: Digi-Key; Manufacturer 2: Panasonic; Manufacturer Part Number 2: EVP-AA602W; Stock 2: 74087; Pricing 2: 1=0.79, 10=0.759, 25=0.7296, 100=0.6334, 250=0.57796, 500=0.53708, 1000=0.48162, 2500=0.45243 (USD); ComponentLink6URL: https://datasheet.ciiva.com/25603/0900766b810ad3e5-25603922.pdf?src-supplier=Rs; ComponentLink6Description: https://datasheet.ciiva.com/25603/0900766b810ad3e5-25603922.pdf?src-supplier=Rs; ComponentLink7URL: https://datasheet.ciiva.com/8166/atk0000ce26-8166426.pdf?src-supplier=Avnet; ComponentLink7Description: https://datasheet.ciiva.com/8166/atk0000ce26-8166426.pdf?src-supplier=Avnet; Supplier Part Number 2: 10-EVP-AA602WCT-ND
footprint SW_Tactile_SPDT EVP-AA602W
pins: 1, 1' 2, 2 3, 2' 4
text: TACTILE SW

## SW_SPST_NO_SMT_9mm*5mm
designator SW?, comment 430182043816
Keypad Switch, 1 Switches, SPST, Momentary, 0.05A, 12VDC, 2.06N, Solder Terminal, Surface Mount-straight; Manufacturer: Wurth Electronics; Actuator Material: Polymer; End Contact Plating: Silver; Actuator Color: Black; End Contact Material: Stainless Steel; Actuator Type: Pushbutton; Contact Current(DC)-Max: 50mA; Contact DC Max Rating R Load: 0.05A@12VDC; Contact Resistance: 0.1mR; Contact Voltage(DC)-Max: 12V; Dielectric Withstand Volts: 250VACV; Insulation Resistance: 100MR; Solderability: REFLOW; Actuator Length: 0.037inch; Body Breadth: 5.6896mm; Body Height: 3.3782mm; Supplier: Farnell; Supplier Part Number: 2065105; Manufacturer Part Number: 430182043816; RoHS: Yes; Category: Tactile Switches; Stock: 2205; Pricing: 10=0.494, 50=0.412, 100=0.391, 250=0.383 (EUR); Mounting Technology: Surface Mount; Contact Material: Stainless Steel; Center Contact Plating: Silver; Housing Material: Polymer; Terminal Material: Brass; Min Operating Temperature: -40°C; Max Operating Temperature: 85°C; Switch Function: SPST; Switch Type: Keypad; Termination: Solder; Body Length or Diameter: 5.6896mm; Reach SVHC Compliant: Yes; RoHS Compliant: Yes; ComponentLink1URL: https://datasheet.ciiva.com:443/pdfs/VipMasterIC/IC/MIDC/MIDC-S-A0007332294/MIDC-S-A0008042542-1.pdf?src-supplier=IHS+Markit; ComponentLink1Description: https://datasheet.ciiva.com:443/pdfs/VipMasterIC/IC/MIDC/MIDC-S-A0007332294/MIDC-S-A0008042542-1.pdf?src-supplier=IHS+Markit; ComponentLink2URL: https://datasheet.ciiva.com/30466/0900766b8126d19d-30466797.pdf?src-supplier=Rs; ComponentLink2Description: https://datasheet.ciiva.com/30466/0900766b8126d19d-30466797.pdf?src-supplier=Rs; ComponentLink3URL: https://datasheet.ciiva.com/29189/711706-da-01-en-taster-430182043816-29189278.pdf?src-supplier=Conrad; ComponentLink3Description: https://datasheet.ciiva.com/29189/711706-da-01-en-taster-430182043816-29189278.pdf?src-supplier=Conrad; ComponentLink4URL: https://datasheet.ciiva.com/1532/4301x2-1532481.pdf?src-supplier=Element14; ComponentLink4Description: https://datasheet.ciiva.com/1532/4301x2-1532481.pdf?src-supplier=Element14
footprint SW_430182043816
pins: 1, 2 3, 3, 4

## SW_TACT_CT1103_12mm_TH
designator SW?, comment CT1103
footprint CT1103_TH_12mm
pins: 1, 2 3, 3, 4

## Test Point SMD Round 0.8mm
designator TP?  (value not drawn)  (net tie, no BOM)
Testpoint SMD Round
footprint Test Point Round 0.8mm
pins: 1

## Test Point SMD Round 1.27mm
designator TP?  (value not drawn)  (net tie, no BOM)
Testpoint SMD Round
footprint Test Point Round 1.27mm
pins: 1

## Test Point SMD Round 2mm
designator TP?  (value not drawn)  (net tie, no BOM)
Testpoint SMD Round
footprint Test Point Round 2mm
pins: 1

## Test Point SMD Square 1.27mm
designator TP?  (value not drawn)  (net tie, no BOM)
Testpoint SMD Square
footprint Test Point Square 1.27mm
pins: 1

## TP_TH_Black_5001
designator TP?, comment 5001  (value not drawn)
Interconnection Device; Manufacturer: Keystone Electronics; Supplier: Digikey; Supplier Part Number: 36-5001-ND; Manufacturer Part Number: 5001; RoHS: Yes; Category: Connectors; Stock: 119852; Pricing: 1=0.39, 10=0.293, 25=0.2624, 100=0.2223, 500=0.18446, 1000=0.1739, 2500=0.1542, 5000=0.14312 (USD); Contact Finish - Termination: Silver (Ag); Connector Type: Interconnection Device; JESD-609 Code: e4; Reach SVHC Compliant: Yes; RoHS Compliant: Yes; ComponentLink1URL: https://datasheet.ciiva.com:443/pdfs/VipMasterIC/IC/KEYC/KEYCS01036/KEYCS02044-1.pdf?src-supplier=IHS+Markit; ComponentLink1Description: https://datasheet.ciiva.com:443/pdfs/VipMasterIC/IC/KEYC/KEYCS01036/KEYCS02044-1.pdf?src-supplier=IHS+Markit; ComponentLink2URL: https://datasheet.ciiva.com/27052/1581986-27052611.pdf?src-supplier=Jameco; ComponentLink2Description: https://datasheet.ciiva.com/27052/1581986-27052611.pdf?src-supplier=Jameco; ComponentLink3URL: https://datasheet.ciiva.com/11836/0900766b8009b7c7-11836045.pdf?src-supplier=Rs; ComponentLink3Description: https://datasheet.ciiva.com/11836/0900766b8009b7c7-11836045.pdf?src-supplier=Rs; ComponentLink4URL: https://datasheet.ciiva.com/22631/1703983-22631100.pdf?src-supplier=Element14; ComponentLink4Description: https://datasheet.ciiva.com/22631/1703983-22631100.pdf?src-supplier=Element14; ComponentLink5URL: https://datasheet.ciiva.com/16318/m60-2p60-16318423.pdf?src-supplier=Future+Electronics; ComponentLink5Description: https://datasheet.ciiva.com/16318/m60-2p60-16318423.pdf?src-supplier=Future+Electronics
footprint TEST POINT TH 1mm
pins: 1

## TP_TH_Blue_5117
designator TP?, comment 5117  (value not drawn)
Interconnection Device; Manufacturer: Keystone Electronics; Supplier: Digikey; Supplier Part Number: 36-5117-ND; Manufacturer Part Number: 5117; RoHS: Yes; Category: Connectors; Stock: 61920; Pricing: 1=0.39, 10=0.293, 25=0.2624, 100=0.2223, 500=0.18446, 1000=0.1739, 2500=0.1542, 5000=0.14312 (USD); Connector Type: Interconnection Device; Reach SVHC Compliant: Yes; RoHS Compliant: Yes; ComponentLink1URL: https://datasheet.ciiva.com:443/pdfs/VipMasterIC/IC/KEYC/KEYC-S-A0000728815/KEYC-S-A0000728815-1.pdf?src-supplier=IHS+Markit; ComponentLink1Description: https://datasheet.ciiva.com:443/pdfs/VipMasterIC/IC/KEYC/KEYC-S-A0000728815/KEYC-S-A0000728815-1.pdf?src-supplier=IHS+Markit; ComponentLink2URL: https://datasheet.ciiva.com/2917/m60-2p60-2917660.pdf?src-supplier=Digikey; ComponentLink2Description: https://datasheet.ciiva.com/2917/m60-2p60-2917660.pdf?src-supplier=Digikey; ComponentLink3URL: https://datasheet.ciiva.com/16886/70182825-16886140.pdf?src-supplier=Allied+Electronics; ComponentLink3Description: https://datasheet.ciiva.com/16886/70182825-16886140.pdf?src-supplier=Allied+Electronics
footprint TEST POINT TH 1mm
pins: 1

## TP_TH_Brown_5115
designator TP?, comment 5115  (value not drawn)
Brown PC Test Point, Miniature Phosphor Bronze, Silver Plating 0.040" (1.02mm); Manufacturer: Ohmite; Supplier: Newark; Supplier Part Number: 14P2948; Manufacturer Part Number: 5115; RoHS: No; Category: Connectors; ComponentLink1URL: http://www.mouser.com/ds/2/303/rheostat_hardware-11896.pdf?src-supplier=Mouser; ComponentLink1Description: http://www.mouser.com/ds/2/303/rheostat_hardware-11896.pdf?src-supplier=Mouser; ComponentLink2URL: http://www.alliedelec.com/images/products/datasheets/bm/OHMITE/70582888.pdf?src-supplier=Allied+Electronics; ComponentLink2Description: http://www.alliedelec.com/images/products/datasheets/bm/OHMITE/70582888.pdf?src-supplier=Allied+Electronics
footprint TEST POINT TH 1mm
pins: 1

## TP_TH_Green_5116
designator TP?, comment 5116  (value not drawn)
Interconnection Device; Manufacturer: Keystone Electronics; Supplier: Digikey; Supplier Part Number: 36-5116-ND; Manufacturer Part Number: 5116; RoHS: Yes; Category: Connectors; Stock: 56166; Pricing: 1=0.39, 10=0.293, 25=0.2624, 100=0.2223, 500=0.18446, 1000=0.1739, 2500=0.1542, 5000=0.14312 (USD); Connector Type: Interconnection Device; Reach SVHC Compliant: Yes; RoHS Compliant: Yes; ComponentLink1URL: https://datasheet.ciiva.com:443/pdfs/VipMasterIC/IC/KEYC/KEYC-S-A0000728815/KEYC-S-A0000728815-1.pdf?src-supplier=IHS+Markit; ComponentLink1Description: https://datasheet.ciiva.com:443/pdfs/VipMasterIC/IC/KEYC/KEYC-S-A0000728815/KEYC-S-A0000728815-1.pdf?src-supplier=IHS+Markit; ComponentLink2URL: https://datasheet.ciiva.com/16382/m60-2p60-16382105.pdf?src-supplier=Future+Electronics; ComponentLink2Description: https://datasheet.ciiva.com/16382/m60-2p60-16382105.pdf?src-supplier=Future+Electronics; ComponentLink3URL: https://datasheet.ciiva.com/2917/m60-2p60-2917639.pdf?src-supplier=Digikey; ComponentLink3Description: https://datasheet.ciiva.com/2917/m60-2p60-2917639.pdf?src-supplier=Digikey; ComponentLink4URL: https://datasheet.ciiva.com/16886/70182825-16886184.pdf?src-supplier=Allied+Electronics; ComponentLink4Description: https://datasheet.ciiva.com/16886/70182825-16886184.pdf?src-supplier=Allied+Electronics
footprint TEST POINT TH 1mm
pins: 1

## TP_TH_Grey_5118
designator TP?, comment 5118  (value not drawn)
Interconnection Device; Manufacturer: Keystone Electronics; Supplier: Digikey; Supplier Part Number: 36-5118-ND; Manufacturer Part Number: 5118; RoHS: Yes; Category: Connectors; Stock: 31591; Pricing: 1=0.39, 10=0.293, 25=0.2624, 100=0.2223, 500=0.18446, 1000=0.1739, 2500=0.1542, 5000=0.14312 (USD); Connector Type: Interconnection Device; Reach SVHC Compliant: Yes; RoHS Compliant: Yes; ComponentLink1URL: https://datasheet.ciiva.com:443/pdfs/VipMasterIC/IC/KEYC/KEYC-S-A0000728815/KEYC-S-A0000728815-1.pdf?src-supplier=IHS+Markit; ComponentLink1Description: https://datasheet.ciiva.com:443/pdfs/VipMasterIC/IC/KEYC/KEYC-S-A0000728815/KEYC-S-A0000728815-1.pdf?src-supplier=IHS+Markit; ComponentLink2URL: https://datasheet.ciiva.com/2917/m60-2p60-2917642.pdf?src-supplier=Digikey; ComponentLink2Description: https://datasheet.ciiva.com/2917/m60-2p60-2917642.pdf?src-supplier=Digikey; ComponentLink3URL: https://datasheet.ciiva.com/16886/70182825-16886040.pdf?src-supplier=Allied+Electronics; ComponentLink3Description: https://datasheet.ciiva.com/16886/70182825-16886040.pdf?src-supplier=Allied+Electronics
footprint TEST POINT TH 1mm
pins: 1

## TP_TH_Orange_5003
designator TP?, comment 5003  (value not drawn)
Interconnection Device; Manufacturer: Keystone Electronics; Supplier: Digikey; Supplier Part Number: 36-5003-ND; Manufacturer Part Number: 5003; RoHS: Yes; Category: Connectors; Stock: 27789; Pricing: 1=0.39, 10=0.293, 25=0.2624, 100=0.2223, 500=0.18446, 1000=0.1739, 2500=0.1542, 5000=0.14312 (USD); Contact Finish - Termination: Silver (Ag); Connector Type: Interconnection Device; JESD-609 Code: e4; Reach SVHC Compliant: Yes; RoHS Compliant: Yes; ComponentLink1URL: https://datasheet.ciiva.com:443/pdfs/VipMasterIC/IC/KEYC/KEYCS01036/KEYCS02044-1.pdf?src-supplier=IHS+Markit; ComponentLink1Description: https://datasheet.ciiva.com:443/pdfs/VipMasterIC/IC/KEYC/KEYCS01036/KEYCS02044-1.pdf?src-supplier=IHS+Markit; ComponentLink2URL: https://datasheet.ciiva.com/1454/1703983-1454826.pdf?src-supplier=Element14; ComponentLink2Description: https://datasheet.ciiva.com/1454/1703983-1454826.pdf?src-supplier=Element14; ComponentLink3URL: https://datasheet.ciiva.com/22631/1703983-22631103.pdf?src-supplier=Element14; ComponentLink3Description: https://datasheet.ciiva.com/22631/1703983-22631103.pdf?src-supplier=Element14; ComponentLink4URL: https://datasheet.ciiva.com/4598/5000-5004-4598618.pdf?src-supplier=Mouser; ComponentLink4Description: https://datasheet.ciiva.com/4598/5000-5004-4598618.pdf?src-supplier=Mouser; ComponentLink5URL: https://datasheet.ciiva.com/16885/70182825-16885788.pdf?src-supplier=Allied+Electronics; ComponentLink5Description: https://datasheet.ciiva.com/16885/70182825-16885788.pdf?src-supplier=Allied+Electronics
footprint TEST POINT TH 1mm
pins: 1

## TP_TH_Purple_5119
designator TP?, comment 5119  (value not drawn)
Interconnection Device; Manufacturer: Keystone Electronics; Supplier: Digikey; Supplier Part Number: 36-5119-ND; Manufacturer Part Number: 5119; RoHS: Yes; Category: Connectors; Stock: 12379; Pricing: 1=0.39, 10=0.293, 25=0.2624, 100=0.2223, 500=0.18446, 1000=0.1739, 2500=0.1542, 5000=0.14312 (USD); Connector Type: Interconnection Device; Reach SVHC Compliant: Yes; RoHS Compliant: Yes; ComponentLink1URL: https://datasheet.ciiva.com:443/pdfs/VipMasterIC/IC/KEYC/KEYC-S-A0000728815/KEYC-S-A0000728815-1.pdf?src-supplier=IHS+Markit; ComponentLink1Description: https://datasheet.ciiva.com:443/pdfs/VipMasterIC/IC/KEYC/KEYC-S-A0000728815/KEYC-S-A0000728815-1.pdf?src-supplier=IHS+Markit; ComponentLink2URL: https://datasheet.ciiva.com/16885/70182825-16885797.pdf?src-supplier=Allied+Electronics; ComponentLink2Description: https://datasheet.ciiva.com/16885/70182825-16885797.pdf?src-supplier=Allied+Electronics; ComponentLink3URL: https://datasheet.ciiva.com/2917/m60-2p60-2917645.pdf?src-supplier=Digikey; ComponentLink3Description: https://datasheet.ciiva.com/2917/m60-2p60-2917645.pdf?src-supplier=Digikey
footprint TEST POINT TH 1mm
pins: 1

## TP_TH_Red_5000
designator TP?, comment 5000  (value not drawn)
Interconnection Device; Manufacturer: Keystone Electronics; Supplier: Digikey; Supplier Part Number: 36-5000-ND; Manufacturer Part Number: 5000; RoHS: Yes; Category: Connectors; Stock: 101570; Pricing: 1=0.39, 10=0.293, 25=0.2624, 100=0.2223, 500=0.18446, 1000=0.1739, 2500=0.1542, 5000=0.14312 (USD); Contact Finish - Termination: Silver (Ag); Connector Type: Interconnection Device; JESD-609 Code: e4; Reach SVHC Compliant: Yes; RoHS Compliant: Yes; ComponentLink1URL: https://datasheet.ciiva.com:443/pdfs/VipMasterIC/IC/KEYC/KEYCS01036/KEYCS02044-1.pdf?src-supplier=IHS+Markit; ComponentLink1Description: https://datasheet.ciiva.com:443/pdfs/VipMasterIC/IC/KEYC/KEYCS01036/KEYCS02044-1.pdf?src-supplier=IHS+Markit; ComponentLink2URL: https://datasheet.ciiva.com/11836/0900766b8009b7c7-11836046.pdf?src-supplier=Rs; ComponentLink2Description: https://datasheet.ciiva.com/11836/0900766b8009b7c7-11836046.pdf?src-supplier=Rs; ComponentLink3URL: https://datasheet.ciiva.com/16883/70182825-16883965.pdf?src-supplier=Allied+Electronics; ComponentLink3Description: https://datasheet.ciiva.com/16883/70182825-16883965.pdf?src-supplier=Allied+Electronics; ComponentLink4URL: https://datasheet.ciiva.com/2917/5000-5004-2917627.pdf?src-supplier=Digikey; ComponentLink4Description: https://datasheet.ciiva.com/2917/5000-5004-2917627.pdf?src-supplier=Digikey
footprint TEST POINT TH 1mm
pins: 1

## TP_TH_White_5002
designator TP?, comment 5002  (value not drawn)
Interconnection Device; Manufacturer: Keystone Electronics; Supplier: Digikey; Supplier Part Number: 36-5002-ND; Manufacturer Part Number: 5002; RoHS: Yes; Category: Connectors; Stock: 238846; Pricing: 1=0.39, 10=0.293, 25=0.2624, 100=0.2223, 500=0.18446, 1000=0.1739, 2500=0.1542, 5000=0.14312 (USD); Contact Finish - Termination: Silver (Ag); JESD-609 Code: e4; Connector Type: Interconnection Device; Reach SVHC Compliant: Yes; RoHS Compliant: Yes; ComponentLink1URL: https://datasheet.ciiva.com:443/pdfs/VipMasterIC/IC/KEYC/KEYCS01036/KEYCS02044-1.pdf?src-supplier=IHS+Markit; ComponentLink1Description: https://datasheet.ciiva.com:443/pdfs/VipMasterIC/IC/KEYC/KEYCS01036/KEYCS02044-1.pdf?src-supplier=IHS+Markit; ComponentLink2URL: https://datasheet.ciiva.com/2917/5000-5004-2917628.pdf?src-supplier=Digikey; ComponentLink2Description: https://datasheet.ciiva.com/2917/5000-5004-2917628.pdf?src-supplier=Digikey; ComponentLink3URL: https://datasheet.ciiva.com/16351/m60-2p60-16351079.pdf?src-supplier=Future+Electronics; ComponentLink3Description: https://datasheet.ciiva.com/16351/m60-2p60-16351079.pdf?src-supplier=Future+Electronics; ComponentLink4URL: https://datasheet.ciiva.com/22631/1703983-22631101.pdf?src-supplier=Element14; ComponentLink4Description: https://datasheet.ciiva.com/22631/1703983-22631101.pdf?src-supplier=Element14
footprint TEST POINT TH 1mm
pins: 1

## TP_TH_Yellow_5004
designator TP, comment 5004  (value not drawn)
Interconnection Device; Manufacturer: Keystone Electronics; Supplier: Digikey; Supplier Part Number: 36-5004-ND; Manufacturer Part Number: 5004; RoHS: Yes; Category: Connectors; Stock: 90204; Pricing: 1=0.39, 10=0.293, 25=0.2624, 100=0.2223, 500=0.18446, 1000=0.1739, 2500=0.1542, 5000=0.14312 (USD); Contact Finish - Termination: Silver (Ag); Connector Type: Interconnection Device; JESD-609 Code: e4; Reach SVHC Compliant: Yes; RoHS Compliant: Yes; ComponentLink1URL: https://datasheet.ciiva.com:443/pdfs/VipMasterIC/IC/KEYC/KEYCS01036/KEYCS02044-1.pdf?src-supplier=IHS+Markit; ComponentLink1Description: https://datasheet.ciiva.com:443/pdfs/VipMasterIC/IC/KEYC/KEYCS01036/KEYCS02044-1.pdf?src-supplier=IHS+Markit; ComponentLink2URL: https://datasheet.ciiva.com/1454/1703983-1454827.pdf?src-supplier=Element14; ComponentLink2Description: https://datasheet.ciiva.com/1454/1703983-1454827.pdf?src-supplier=Element14; ComponentLink3URL: https://datasheet.ciiva.com/2917/5000-5004-2917632.pdf?src-supplier=Digikey; ComponentLink3Description: https://datasheet.ciiva.com/2917/5000-5004-2917632.pdf?src-supplier=Digikey; ComponentLink4URL: https://datasheet.ciiva.com/16507/m60-2p60-16507925.pdf?src-supplier=Future+Electronics; ComponentLink4Description: https://datasheet.ciiva.com/16507/m60-2p60-16507925.pdf?src-supplier=Future+Electronics
footprint TEST POINT TH 1mm
pins: 1